# Altium footprint library relay.PCBLIB: 291 footprints (part 12 of 19)
Each footprint in its own frame and in the unit in brackets; x right, y up, seen from the top. Pads: shape width x height; smd on the part's side, far side on the other; paste and mask are expansions set on the pad; w line width, h text height; cw(c..) or ccw(c..) is an arc to the next point about the centre after c.
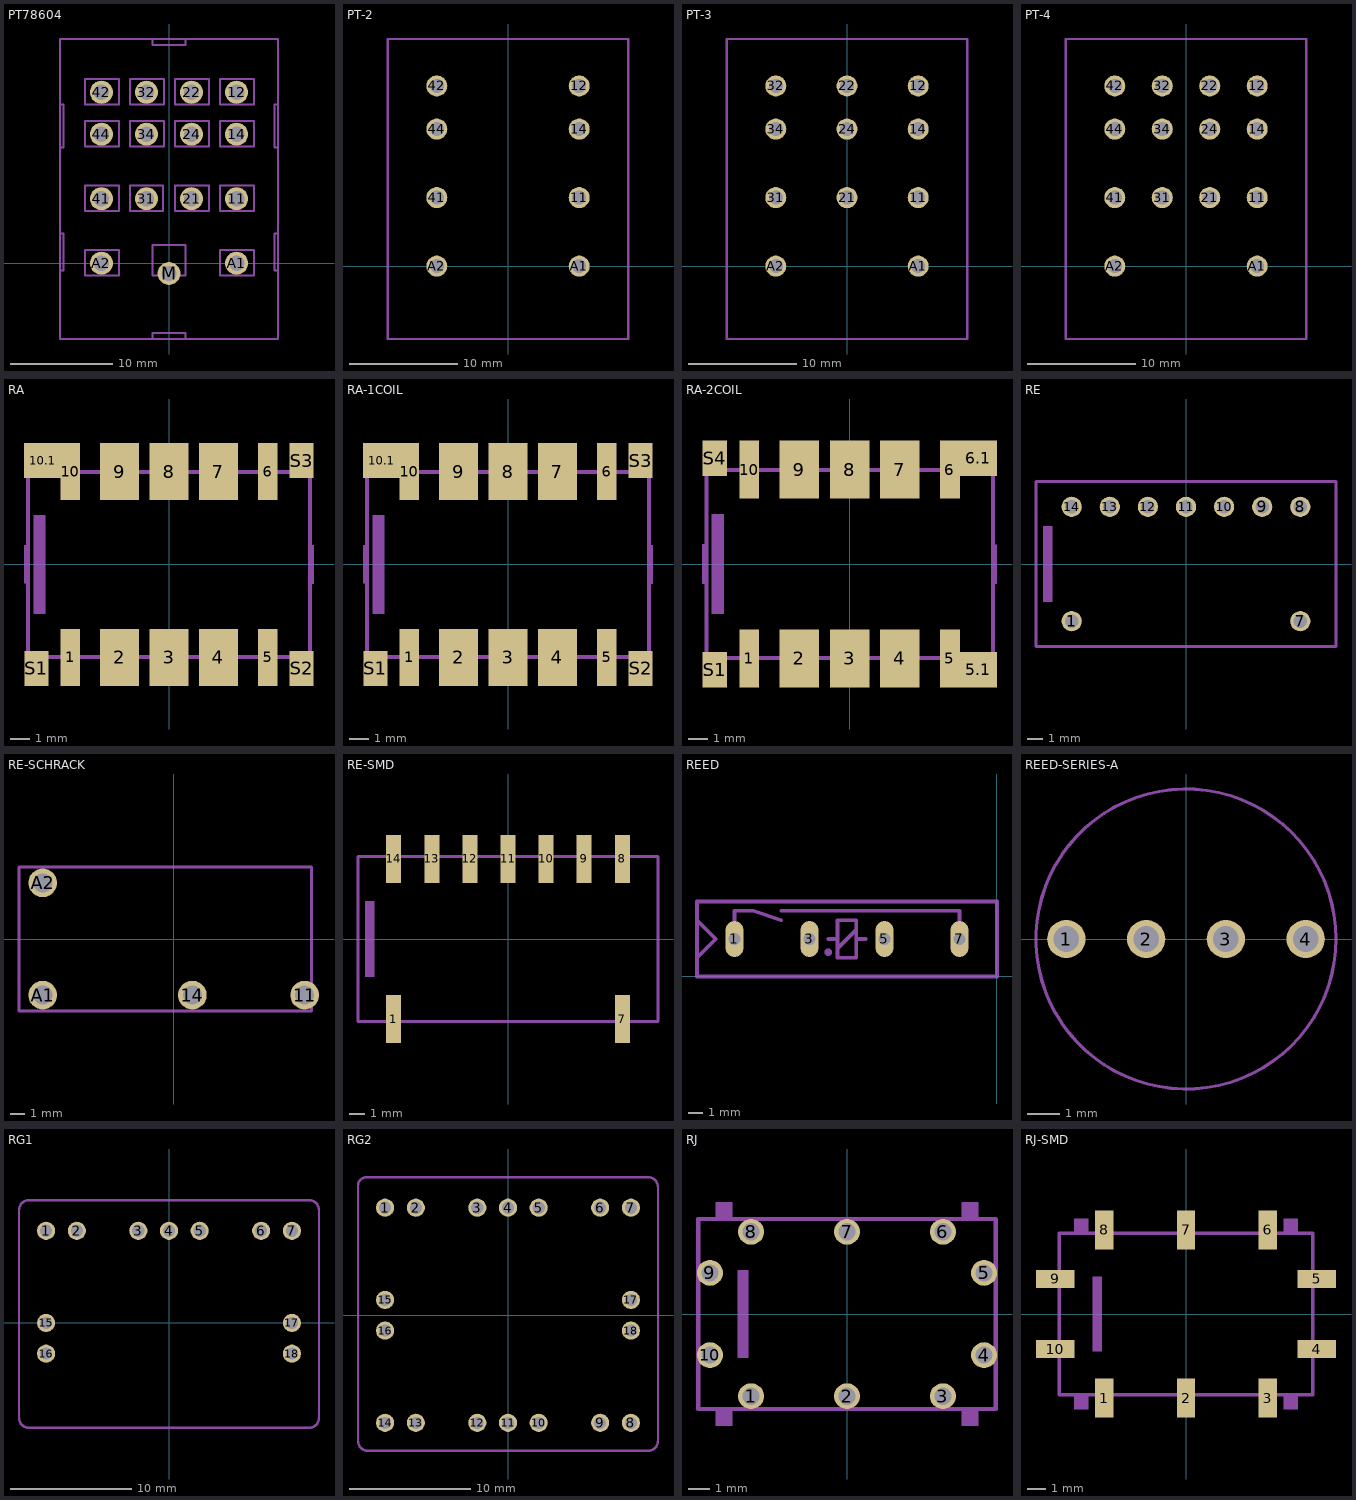
[diagram p11: the footprints below, top view; thin cyan lines are the x and y axes]

## PT78604 [mm]
pads (15):
  round 2.25 hole 1.5: 11(6.6,6.3) 12(6.6,16.7) 14(6.6,12.6) 21(2.2,6.3) 22(2.2,16.7) 24(2.2,12.6) 31(-2.2,6.3) 32(-2.2,16.7) 34(-2.2,12.6) 41(-6.6,6.3) 42(-6.6,16.7) 44(-6.6,12.6) A1(6.6,0) A2(-6.6,0) M(0,-1)
Mechanical 2:
  lines w0.203: -10.6,2.9 -10.3,2.9 -10.3,-0.7 -10.5,-0.7 ; -10.6,11.3 -10.3,11.3 -10.3,15.5 -10.6,15.5 ; -1.6,-7.3 -1.6,-6.8 1.6,-6.8 1.6,-7.3 ; -1.6,21.8 -1.6,21.3 1.6,21.3 1.6,21.8 ; 10.5,2.9 10.3,2.9 10.3,-0.7 10.6,-0.7 ; 10.5,15.5 10.3,15.5 10.3,11.3 10.6,11.3 ; -10.65,-7.4 10.65,-7.4 10.65,21.9 -10.65,21.9 -10.65,-7.4
Mechanical 18:
  lines w0.203: -8.2,-1.2 -4.9,-1.2 -4.9,1.3 -8.2,1.3 -8.2,-1.2 ; -8.2,5.1 -4.9,5.1 -4.9,7.6 -8.2,7.6 -8.2,5.1 ; -8.2,11.4 -4.9,11.4 -4.9,13.9 -8.2,13.9 -8.2,11.4 ; -8.2,15.5 -4.9,15.5 -4.9,18 -8.2,18 -8.2,15.5 ; -3.8,5.1 -0.6,5.1 -0.6,7.6 -3.8,7.6 -3.8,5.1 ; -3.8,11.4 -0.5,11.4 -0.5,13.9 -3.8,13.9 -3.8,11.4 ; -3.8,15.5 -0.5,15.5 -0.5,18 -3.8,18 -3.8,15.5 ; -1.6,-1.2 1.6,-1.2 1.6,1.8 -1.6,1.8 -1.6,-1.2 ; 0.6,5.1 3.9,5.1 3.9,7.6 0.6,7.6 0.6,5.1 ; 0.6,11.4 3.9,11.4 3.9,13.9 0.6,13.9 0.6,11.4 ; 0.6,15.5 3.9,15.5 3.9,18 0.6,18 0.6,15.5 ; 5,-1.2 8.3,-1.2 8.3,1.3 5,1.3 5,-1.2 ; 5,5.1 8.3,5.1 8.3,7.6 5,7.6 5,5.1 ; 5,11.4 8.3,11.4 8.3,13.9 5,13.9 5,11.4 ; 5,15.5 8.3,15.5 8.3,18 5,18 5,15.5

## PT-2 [mm]
pads (8):
  round 1.95 hole 1.3: 11(6.6,6.35) 12(6.6,16.7) 14(6.6,12.7) 41(-6.6,6.35) 42(-6.6,16.7) 44(-6.6,12.7) A1(6.6,0) A2(-6.6,0)
Mechanical 2:
  lines w0.203: -11.15,-6.75 11.15,-6.75 11.15,21.05 -11.15,21.05 -11.15,-6.75

## PT-3 [mm]
pads (11):
  round 1.95 hole 1.3: 11(6.6,6.35) 12(6.6,16.7) 14(6.6,12.7) 21(0,6.35) 22(0,16.7) 24(0,12.7) 31(-6.6,6.35) 32(-6.6,16.7) 34(-6.6,12.7) A1(6.6,0) A2(-6.6,0)
Mechanical 2:
  lines w0.203: -11.15,-6.75 11.15,-6.75 11.15,21.05 -11.15,21.05 -11.15,-6.75

## PT-4 [mm]
pads (14):
  round 1.95 hole 1.3: 11(6.6,6.35) 12(6.6,16.7) 14(6.6,12.7) 21(2.2,6.35) 22(2.2,16.7) 24(2.2,12.7) 31(-2.2,6.35) 32(-2.2,16.7) 34(-2.2,12.7) 41(-6.6,6.35) 42(-6.6,16.7) 44(-6.6,12.7) A1(6.6,0) A2(-6.6,0)
Mechanical 2:
  lines w0.203: -11.15,-6.75 11.15,-6.75 11.15,21.05 -11.15,21.05 -11.15,-6.75

## RA [mm]
pads (14):
  rect 1x2.94 smd: 1(-5.08,-4.78) 5(5.08,-4.78) 6(5.08,4.78) 10(-5.08,4.78)
  rect 2x2.94 smd: 2(-2.54,-4.78) 3(0,-4.78) 4(2.54,-4.78) 7(2.54,4.78) 8(0,4.78) 9(-2.54,4.78)
  rect 1.9x1.8 smd: 10.1(-6.5,5.35)
  rect 1.25x1.8 smd: S1(-6.82,-5.35) S2(6.82,-5.35) S3(6.82,5.35)
Mechanical 2:
  rectangle: -6.985,-2.54 -6.35,2.54
  lines w0.203: -7.25,-3.9 -7.25,3.95 ; 7.25,-3.85 7.25,3.9
Mechanical 8:
  region: -7.15,1.01 -7.45,1.01 -7.45,-0.99 -7.15,-0.99
  region: 7.46,1 7.15,1 7.15,-1 7.46,-1
Mechanical 18:
  rectangle: -7.15,4.8 -6.45,5.75
  rectangle: -5.33,4.84 -4.83,5.75
  rectangle: -2.79,4.83 -2.29,5.75
  rectangle: -0.25,4.84 0.25,5.75
  rectangle: 2.29,4.83 2.79,5.75
  rectangle: 4.83,4.84 5.33,5.75
  rectangle: 6.45,4.84 7.15,5.75
  region: 7.15,-4.8 6.45,-4.8 6.45,-5.75 7.15,-5.75
  region: 5.33,-4.84 4.83,-4.84 4.83,-5.75 5.33,-5.75
  region: 2.79,-4.83 2.29,-4.83 2.29,-5.75 2.79,-5.75
  region: 0.25,-4.84 -0.25,-4.84 -0.25,-5.75 0.25,-5.75
  region: -2.29,-4.83 -2.79,-4.83 -2.79,-5.75 -2.29,-5.75
  region: -4.83,-4.84 -5.33,-4.84 -5.33,-5.75 -4.83,-5.75
  region: -6.45,-4.84 -7.15,-4.84 -7.15,-5.75 -6.45,-5.75
  lines w0.203: -7.25,-4.75 7.25,-4.75 7.25,4.75 -7.25,4.75 -7.25,-4.75

## RA-1COIL [mm]
pads (14):
  rect 1x2.94 smd: 1(-5.08,-4.78) 5(5.08,-4.78) 6(5.08,4.78) 10(-5.08,4.78)
  rect 2x2.94 smd: 2(-2.54,-4.78) 3(0,-4.78) 4(2.54,-4.78) 7(2.54,4.78) 8(0,4.78) 9(-2.54,4.78)
  rect 1.9x1.8 smd: 10.1(-6.5,5.35)
  rect 1.25x1.8 smd: S1(-6.82,-5.35) S2(6.82,-5.35) S3(6.82,5.35)
Mechanical 2:
  rectangle: -6.985,-2.54 -6.35,2.54
  lines w0.203: -7.25,-3.9 -7.25,3.95 ; 7.25,-3.85 7.25,3.9
Mechanical 8:
  region: -7.15,1.01 -7.45,1.01 -7.45,-0.99 -7.15,-0.99
  region: 7.46,1 7.15,1 7.15,-1 7.46,-1
Mechanical 18:
  rectangle: -7.15,4.8 -6.45,5.75
  rectangle: -5.33,4.84 -4.83,5.75
  rectangle: -2.79,4.83 -2.29,5.75
  rectangle: -0.25,4.84 0.25,5.75
  rectangle: 2.29,4.83 2.79,5.75
  rectangle: 4.83,4.84 5.33,5.75
  rectangle: 6.45,4.84 7.15,5.75
  region: 7.15,-4.8 6.45,-4.8 6.45,-5.75 7.15,-5.75
  region: 5.33,-4.84 4.83,-4.84 4.83,-5.75 5.33,-5.75
  region: 2.79,-4.83 2.29,-4.83 2.29,-5.75 2.79,-5.75
  region: 0.25,-4.84 -0.25,-4.84 -0.25,-5.75 0.25,-5.75
  region: -2.29,-4.83 -2.79,-4.83 -2.79,-5.75 -2.29,-5.75
  region: -4.83,-4.84 -5.33,-4.84 -5.33,-5.75 -4.83,-5.75
  region: -6.45,-4.84 -7.15,-4.84 -7.15,-5.75 -6.45,-5.75
  lines w0.203: -7.25,-4.75 7.25,-4.75 7.25,4.75 -7.25,4.75 -7.25,-4.75

## RA-2COIL [mm]
pads (14):
  rect 1x2.94 smd: 1(-5.08,-4.78) 5(5.08,-4.78) 6(5.08,4.78) 10(-5.08,4.78)
  rect 2x2.94 smd: 2(-2.54,-4.78) 3(0,-4.78) 4(2.54,-4.78) 7(2.54,4.78) 8(0,4.78) 9(-2.54,4.78)
  rect 1.9x1.8 smd: 5.1(6.5,-5.35) 6.1(6.51,5.35)
  rect 1.25x1.8 smd: S1(-6.82,-5.35) S4(-6.82,5.35)
Mechanical 2:
  rectangle: -6.985,-2.54 -6.35,2.54
  lines w0.203: -7.25,-3.9 -7.25,3.95 ; 7.25,-3.85 7.25,3.9
Mechanical 8:
  rectangle: 7.15,-1.01 7.45,0.99
  rectangle: -7.46,-1 -7.15,1
Mechanical 18:
  rectangle: -7.15,4.8 -6.45,5.75
  rectangle: -5.33,4.84 -4.83,5.75
  rectangle: -2.79,4.83 -2.29,5.75
  rectangle: -0.25,4.84 0.25,5.75
  rectangle: 2.29,4.83 2.79,5.75
  rectangle: 4.83,4.84 5.33,5.75
  rectangle: 6.45,4.84 7.15,5.75
  region: 7.15,-4.8 6.45,-4.8 6.45,-5.75 7.15,-5.75
  region: 5.33,-4.84 4.83,-4.84 4.83,-5.75 5.33,-5.75
  region: 2.79,-4.83 2.29,-4.83 2.29,-5.75 2.79,-5.75
  region: 0.25,-4.84 -0.25,-4.84 -0.25,-5.75 0.25,-5.75
  region: -2.29,-4.83 -2.79,-4.83 -2.79,-5.75 -2.29,-5.75
  region: -4.83,-4.84 -5.33,-4.84 -5.33,-5.75 -4.83,-5.75
  region: -6.45,-4.84 -7.15,-4.84 -7.15,-5.75 -6.45,-5.75
  lines w0.203: -7.25,-4.75 7.25,-4.75 7.25,4.75 -7.25,4.75 -7.25,-4.75

## RE [mil]
pads (9):
  round 53.15 hole 35.43: 1(-300,-150) 7(300,-150) 8(300,150) 9(200,150) 10(100,150) 11(0,150) 12(-100,150) 13(-200,150) 14(-300,150)
Mechanical 2:
  rectangle: -375,-100 -350,100
  lines w8: -393.7,-216.54 393.7,-216.54 393.7,216.54 -393.7,216.54 -393.7,-216.54

## RE-SCHRACK [mil]
pads (4):
  round 76.77 hole 51.18: 11(350,-150) 14(50,-150) A1(-350,-150) A2(-350,150)
Mechanical 2:
  lines w8: -413.39,-192.91 -413.39,192.91 ; -313.39,-192.91 -81.89,-192.91 ; -263.39,192.91 368.11,192.91 368.11,-192.91 ; 136.61,-192.91 268.11,-192.91
Mechanical 18:
  lines w8: -413.39,-192.91 368.11,-192.91 ; -413.39,192.91 368.11,192.91

## RE-SMD [mil]
pads (9):
  rect 39.37x125.98 smd: 1(-300,-210) 7(300,-210) 8(300,210) 9(200,210) 10(100,210) 11(0,210) 12(-100,210) 13(-200,210) 14(-300,210)
Mechanical 2:
  rectangle: -375,-100 -350,100
  lines w8: -393.7,-216.54 393.7,-216.54 393.7,216.54 -393.7,216.54 -393.7,-216.54
Mechanical 18:
  rectangle: -309.84,218.9 -290.16,259.84
  rectangle: -209.84,218.9 -190.16,259.84
  rectangle: -109.84,218.9 -90.16,259.84
  rectangle: -9.84,218.9 9.84,259.84
  rectangle: 90.16,218.9 109.84,259.84
  rectangle: 190.16,218.9 209.84,259.84
  rectangle: 290.16,218.9 309.84,259.84
  region: 309.84,-218.9 290.16,-218.9 290.16,-259.84 309.84,-259.84
  region: -290.16,-218.9 -309.84,-218.9 -309.84,-259.84 -290.16,-259.84

## REED [mil]
pads (4):
  oval 48x96 hole 32: 1(-700,100) 3(-500,100) 5(-300,100) 7(-100,100)
Mechanical 2:
  circle w10: c-450,65 r5
  lines w10: -700,150 -700,175 -650,175 -575,150 ; -575,175 -100,175 -100,150 ; -450,100 -425,100 ; -350,100 -375,100 ; -800,50 -800,0 0,0 0,200 -800,200 -800,150 ; -800,50 -800,150 ; -800,50 -750,100 -800,150 ; -425,75 -425,50 -375,50 -375,100 ; -425,75 -425,100 ; -425,75 -375,125 ; -425,100 -425,150 -375,150 -375,125 ; -375,100 -375,125

## REED-SERIES-A [mil]
pads (4):
  round 47.25 hole 31.5: 1(-147.64,0) 2(-49.21,0) 3(49.21,0) 4(147.64,0)
Mechanical 2:
  circle w3.94: c0,0 r185.04

## RG1 [mm]
pads (11):
  round 1.5 hole 1: 1(-10.16,7.62) 2(-7.62,7.62) 3(-2.54,7.62) 4(0,7.62) 5(2.54,7.62) 6(7.62,7.62) 7(10.16,7.62) 15(-10.16,0) 16(-10.16,-2.54) 17(10.16,0) 18(10.16,-2.54)
Mechanical 2:
  lines w0.203: -12.4,9.327 cw(c-11.587,9.327) -11.587,10.14 11.587,10.14 cw(c11.587,9.327) 12.4,9.327 12.4,-7.847 cw(c11.587,-7.847) 11.587,-8.66 -11.587,-8.66 cw(c-11.587,-7.847) -12.4,-7.847 -12.4,9.34

## RG2 [mm]
pads (18):
  round 1.5 hole 1: 1(-10.16,8.89) 2(-7.62,8.89) 3(-2.54,8.89) 4(0,8.89) 5(2.54,8.89) 6(7.62,8.89) 7(10.16,8.89) 8(10.16,-8.89) 9(7.62,-8.89) 10(2.54,-8.89) 11(0,-8.89) 12(-2.54,-8.89) 13(-7.62,-8.89) 14(-10.16,-8.89) 15(-10.16,1.27) 16(-10.16,-1.27) 17(10.16,1.27) 18(10.16,-1.27)
Mechanical 2:
  lines w0.203: -10.55,11.41 -11.7,11.41 ; -11.7,11.41 ccw(c-11.7,10.71) -12.4,10.71 -12.4,-10.387 ccw(c-11.587,-10.387) -11.587,-11.2 11.587,-11.2 ccw(c11.587,-10.387) 12.4,-10.387 12.4,10.597 ccw(c11.587,10.597) 11.587,11.41 -11.7,11.41

## RJ [mil]
pads (10):
  round 47.25 hole 31.5: 1(-175,-150) 2(0,-150) 3(175,-150) 4(250,-75) 5(250,75) 6(175,150) 7(0,150) 8(-175,150) 9(-250,75) 10(-250,-75)
Mechanical 2:
  rectangle: -240.16,175.2 -208.66,204.72
  rectangle: 208.66,175.2 240.16,204.72
  rectangle: 208.66,-204.72 240.16,-175.2
  rectangle: -240.16,-204.72 -208.66,-175.2
  rectangle: -200,-80 -180,80
  lines w8: -271.65,-173.23 271.65,-173.23 271.65,173.23 -271.65,173.23 -271.65,-173.23

## RJ-SMD [mil]
pads (10):
  rect 39.37x82.68 smd: 1(-175,-180) 2(0,-180) 3(175,-180) 6(175,180) 7(0,180) 8(-175,180)
  rect 82.68x39.37 smd: 4(280,-75) 5(280,75) 9(-280,75) 10(-280,-75)
Mechanical 2:
  rectangle: -240.16,175.2 -208.66,204.72
  rectangle: 208.66,175.2 240.16,204.72
  rectangle: 208.66,-204.72 240.16,-175.2
  rectangle: -240.16,-204.72 -208.66,-175.2
  rectangle: -200,-80 -180,80
  lines w8: -271.65,-173.23 271.65,-173.23 271.65,173.23 -271.65,173.23 -271.65,-173.23
Mechanical 18:
  rectangle: -9.84,177.17 9.84,196.85
  rectangle: -9.84,-196.85 9.84,-177.17
  rectangle: -295.28,64.96 -275.59,84.65
  rectangle: -295.28,-84.65 -275.59,-64.96
  rectangle: -183.07,-196.85 -167.32,-177.17
  rectangle: 167.32,-196.85 183.07,-177.17
  rectangle: 275.59,-84.65 295.28,-64.96
  rectangle: 275.59,64.96 295.28,84.65
  rectangle: 167.32,177.17 183.07,196.85
  rectangle: -183.07,177.17 -167.32,196.85